# Altium schematic symbol library TSR1-2433E.SchLib: 3 symbols
Pins are listed as number, name and electrical type; pins without a type are passive.

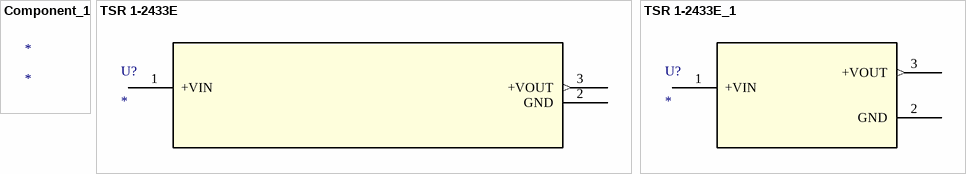
[diagram p0: symbols Component_1 to TSR 1-2433E_1]

## Component_1
designator *

## TSR 1-2433E
designator U?
No Description Available; Mfr_Name: Traco Power; RefDes: RefDes; Type: Type
footprint TSR 1E_TRP
pins: 1 +VIN (power), 2 GND (power), 3 +VOUT (out)

## TSR 1-2433E_1
designator U?
No Description Available; Mfr_Name: Traco Power; RefDes: RefDes; Type: Type
footprint TSR 1E_TRP
pins: 1 +VIN (power), 2 GND (power), 3 +VOUT (out)